# EAGLE library part 93AA86C-I/SN (library Microchip_By_element14_Batch_1)
16K Microwire Compatible Serial EEPROM
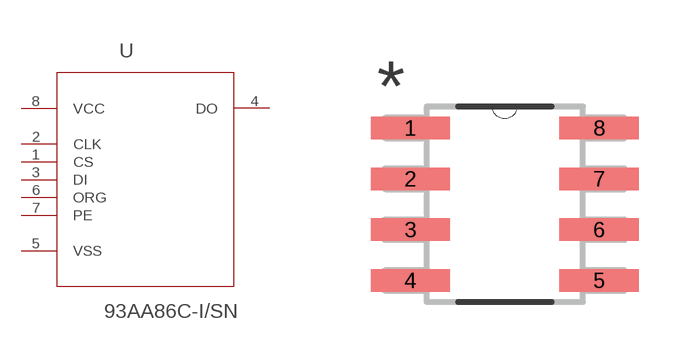
[diagram p213: symbol with the pads of SOIC127P600X175-8N; footprint SOIC127P600X175-8N]

Designator prefix -

## 93AA86C-I/SN (DESCRIPTION: 16K Microwire Compatible Serial EEPROM; MPN: 93AA86C-I/SN; OC_FARNELL: 1331455; OC_NEWARK: 61H6505; PACKAGE: SOIC-8; SUPPLIER: Microchip)  [SOIC127P600X175-8N]
1  CS  in
2  CLK  in
3  DI  in
4  DO  out
5  VSS  pwr
6  ORG  in
7  PE  in
8  VCC  pwr

## Footprint SOIC127P600X175-8N (pad centres in mm)
smd 1.981 x 0.559: 1 -2.362,1.905; 2 -2.362,0.635; 3 -2.362,-0.635; 4 -2.362,-1.905; 5 2.362,-1.905; 6 2.362,-0.635; 7 2.362,0.635; 8 2.362,1.905